# Altium footprint library MAX9722AEUE&plus_.PcbLib: 3 footprints
Each footprint in its own frame and in the unit in brackets; x right, y up, seen from the top. Pads: shape width x height; smd on the part's side, far side on the other; paste and mask are expansions set on the pad; w line width, h text height; cw(c..) or ccw(c..) is an arc to the next point about the centre after c.
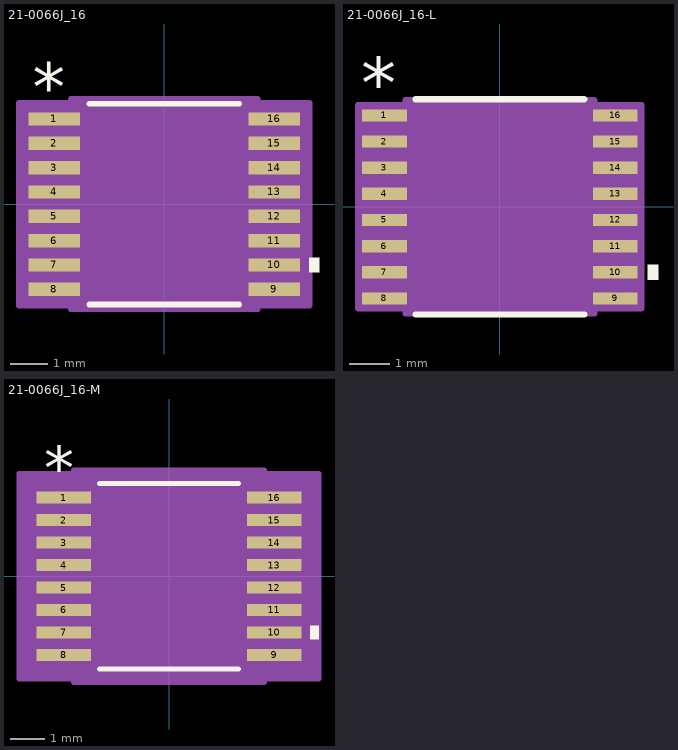
[diagram p0: the footprints below, top view; thin cyan lines are the x and y axes]

## 21-0066J_16 [mm]
pads (16):
  rect 1.379x0.355 smd paste+0 mask+0: 1(-2.937,2.275) 2(-2.937,1.625) 3(-2.937,0.975) 4(-2.937,0.325) 5(-2.937,-0.325) 6(-2.937,-0.975) 7(-2.937,-1.625) 8(-2.937,-2.275) 9(2.937,-2.275) 10(2.937,-1.625) 11(2.937,-0.975) 12(2.937,-0.325) 13(2.937,0.325) 14(2.937,0.975) 15(2.937,1.625) 16(2.937,2.275)
Top Overlay:
  region: 3.881,-1.435 4.135,-1.435 4.135,-1.816 3.881,-1.816
  lines w0.152: -2.005,-2.68 2.005,-2.68 ; -2.005,2.68 2.005,2.68
  text "*" at -3.509,2.503 h1.27
Mechanical 13:
  lines w0: -0.305,2.553 ccw(c0,2.553) 0.305,2.553
  lines w0.025: -3.277,-2.427 -3.277,-2.123 -2.248,-2.123 -2.248,-2.427 -3.277,-2.427 ; -3.277,-1.777 -3.277,-1.473 -2.248,-1.473 -2.248,-1.777 -3.277,-1.777 ; -3.277,-1.127 -3.277,-0.823 -2.248,-0.823 -2.248,-1.127 -3.277,-1.127 ; -3.277,-0.477 -3.277,-0.173 -2.248,-0.173 -2.248,-0.477 -3.277,-0.477 ; -3.277,0.173 -3.277,0.477 -2.248,0.477 -2.248,0.173 -3.277,0.173 ; -3.277,0.823 -3.277,1.127 -2.248,1.127 -2.248,0.823 -3.277,0.823 ; -3.277,1.473 -3.277,1.777 -2.248,1.777 -2.248,1.473 -3.277,1.473 ; -3.277,2.123 -3.277,2.427 -2.248,2.427 -2.248,2.123 -3.277,2.123 ; -2.248,-2.553 2.248,-2.553 2.248,2.553 -2.248,2.553 -2.248,-2.553 ; 2.248,-2.427 2.248,-2.123 3.277,-2.123 3.277,-2.427 2.248,-2.427 ; 2.248,-1.777 2.248,-1.473 3.277,-1.473 3.277,-1.777 2.248,-1.777 ; 2.248,-1.127 2.248,-0.823 3.277,-0.823 3.277,-1.127 2.248,-1.127 ; 2.248,-0.477 2.248,-0.173 3.277,-0.173 3.277,-0.477 2.248,-0.477 ; 2.248,0.173 2.248,0.477 3.277,0.477 3.277,0.173 2.248,0.173 ; 2.248,0.823 2.248,1.127 3.277,1.127 3.277,0.823 2.248,0.823 ; 2.248,1.473 2.248,1.777 3.277,1.777 3.277,1.473 2.248,1.473 ; 2.248,2.123 2.248,2.427 3.277,2.427 3.277,2.123 2.248,2.123
  text "*" at -2.184,1.206 h1.27
Mechanical 15:
  region: -2.502,-2.706 -3.881,-2.706 -3.881,2.706 -2.502,2.706 -2.502,2.807 2.502,2.807 2.502,2.706 3.881,2.706 3.881,-2.706 2.502,-2.706 2.502,-2.807 -2.502,-2.807
  lines w0.152: -3.881,-2.706 -3.881,2.706 -2.502,2.706 -2.502,2.807 2.502,2.807 2.502,2.706 3.881,2.706 3.881,-2.706 2.502,-2.706 2.502,-2.807 -2.502,-2.807 -2.502,-2.706 -3.881,-2.706
3D body "21-0066J_16.step": height 1.09, standoff 0, extent -3.277,-2.553 3.277,2.553

## 21-0066J_16-L [mm]
pads (16):
  rect 1.111x0.305 smd paste+0 mask+0: 1(-2.871,2.275) 2(-2.871,1.625) 3(-2.871,0.975) 4(-2.871,0.325) 5(-2.871,-0.325) 6(-2.871,-0.975) 7(-2.871,-1.625) 8(-2.871,-2.275) 9(2.871,-2.275) 10(2.871,-1.625) 11(2.871,-0.975) 12(2.871,-0.325) 13(2.871,0.325) 14(2.871,0.975) 15(2.871,1.625) 16(2.871,2.275)
Top Overlay:
  region: 3.681,-1.435 3.935,-1.435 3.935,-1.816 3.681,-1.816
  lines w0.152: -2.098,-2.68 2.098,-2.68 ; -2.098,2.68 2.098,2.68
  text "*" at -3.443,2.453 h1.27
Mechanical 13:
  lines w0: -0.305,2.553 ccw(c0,2.553) 0.305,2.553
  lines w0.025: -3.277,-2.427 -3.277,-2.123 -2.248,-2.123 -2.248,-2.427 -3.277,-2.427 ; -3.277,-1.777 -3.277,-1.473 -2.248,-1.473 -2.248,-1.777 -3.277,-1.777 ; -3.277,-1.127 -3.277,-0.823 -2.248,-0.823 -2.248,-1.127 -3.277,-1.127 ; -3.277,-0.477 -3.277,-0.173 -2.248,-0.173 -2.248,-0.477 -3.277,-0.477 ; -3.277,0.173 -3.277,0.477 -2.248,0.477 -2.248,0.173 -3.277,0.173 ; -3.277,0.823 -3.277,1.127 -2.248,1.127 -2.248,0.823 -3.277,0.823 ; -3.277,1.473 -3.277,1.777 -2.248,1.777 -2.248,1.473 -3.277,1.473 ; -3.277,2.123 -3.277,2.427 -2.248,2.427 -2.248,2.123 -3.277,2.123 ; -2.248,-2.553 2.248,-2.553 2.248,2.553 -2.248,2.553 -2.248,-2.553 ; 2.248,-2.427 2.248,-2.123 3.277,-2.123 3.277,-2.427 2.248,-2.427 ; 2.248,-1.777 2.248,-1.473 3.277,-1.473 3.277,-1.777 2.248,-1.777 ; 2.248,-1.127 2.248,-0.823 3.277,-0.823 3.277,-1.127 2.248,-1.127 ; 2.248,-0.477 2.248,-0.173 3.277,-0.173 3.277,-0.477 2.248,-0.477 ; 2.248,0.173 2.248,0.477 3.277,0.477 3.277,0.173 2.248,0.173 ; 2.248,0.823 2.248,1.127 3.277,1.127 3.277,0.823 2.248,0.823 ; 2.248,1.473 2.248,1.777 3.277,1.777 3.277,1.473 2.248,1.473 ; 2.248,2.123 2.248,2.427 3.277,2.427 3.277,2.123 2.248,2.123
  text "*" at -2.184,1.206 h1.27
Mechanical 15:
  region: -2.349,-2.529 -3.528,-2.529 -3.528,2.529 -2.349,2.529 -2.349,2.654 2.349,2.654 2.349,2.529 3.528,2.529 3.528,-2.529 2.349,-2.529 2.349,-2.654 -2.349,-2.654
  lines w0.152: -3.528,-2.529 -3.528,2.529 -2.349,2.529 -2.349,2.654 2.349,2.654 2.349,2.529 3.528,2.529 3.528,-2.529 2.349,-2.529 2.349,-2.654 -2.349,-2.654 -2.349,-2.529 -3.528,-2.529
3D body "21-0066J_16.step": height 1.09, standoff 0, extent -3.277,-2.553 3.277,2.553

## 21-0066J_16-M [mm]
pads (16):
  rect 1.579x0.355 smd paste+0 mask+0: 1(-3.037,2.275) 2(-3.037,1.625) 3(-3.037,0.975) 4(-3.037,0.325) 5(-3.037,-0.325) 6(-3.037,-0.975) 7(-3.037,-1.625) 8(-3.037,-2.275) 9(3.037,-2.275) 10(3.037,-1.625) 11(3.037,-0.975) 12(3.037,-0.325) 13(3.037,0.325) 14(3.037,0.975) 15(3.037,1.625) 16(3.037,2.275)
Top Overlay:
  region: 4.081,-1.435 4.335,-1.435 4.335,-1.816 4.081,-1.816
  lines w0.152: -2.005,-2.68 2.005,-2.68 ; -2.005,2.68 2.005,2.68
  text "*" at -3.609,2.503 h1.27
Mechanical 13:
  lines w0: -0.305,2.553 ccw(c0,2.553) 0.305,2.553
  lines w0.025: -3.277,-2.427 -3.277,-2.123 -2.248,-2.123 -2.248,-2.427 -3.277,-2.427 ; -3.277,-1.777 -3.277,-1.473 -2.248,-1.473 -2.248,-1.777 -3.277,-1.777 ; -3.277,-1.127 -3.277,-0.823 -2.248,-0.823 -2.248,-1.127 -3.277,-1.127 ; -3.277,-0.477 -3.277,-0.173 -2.248,-0.173 -2.248,-0.477 -3.277,-0.477 ; -3.277,0.173 -3.277,0.477 -2.248,0.477 -2.248,0.173 -3.277,0.173 ; -3.277,0.823 -3.277,1.127 -2.248,1.127 -2.248,0.823 -3.277,0.823 ; -3.277,1.473 -3.277,1.777 -2.248,1.777 -2.248,1.473 -3.277,1.473 ; -3.277,2.123 -3.277,2.427 -2.248,2.427 -2.248,2.123 -3.277,2.123 ; -2.248,-2.553 2.248,-2.553 2.248,2.553 -2.248,2.553 -2.248,-2.553 ; 2.248,-2.427 2.248,-2.123 3.277,-2.123 3.277,-2.427 2.248,-2.427 ; 2.248,-1.777 2.248,-1.473 3.277,-1.473 3.277,-1.777 2.248,-1.777 ; 2.248,-1.127 2.248,-0.823 3.277,-0.823 3.277,-1.127 2.248,-1.127 ; 2.248,-0.477 2.248,-0.173 3.277,-0.173 3.277,-0.477 2.248,-0.477 ; 2.248,0.173 2.248,0.477 3.277,0.477 3.277,0.173 2.248,0.173 ; 2.248,0.823 2.248,1.127 3.277,1.127 3.277,0.823 2.248,0.823 ; 2.248,1.473 2.248,1.777 3.277,1.777 3.277,1.473 2.248,1.473 ; 2.248,2.123 2.248,2.427 3.277,2.427 3.277,2.123 2.248,2.123
  text "*" at -2.184,1.206 h1.27
Mechanical 15:
  region: -2.756,-2.96 -4.335,-2.96 -4.335,2.96 -2.756,2.96 -2.756,3.061 2.756,3.061 2.756,2.96 4.335,2.96 4.335,-2.96 2.756,-2.96 2.756,-3.061 -2.756,-3.061
  lines w0.152: -4.335,-2.96 -4.335,2.96 -2.756,2.96 -2.756,3.061 2.756,3.061 2.756,2.96 4.335,2.96 4.335,-2.96 2.756,-2.96 2.756,-3.061 -2.756,-3.061 -2.756,-2.96 -4.335,-2.96
3D body "21-0066J_16.step": height 1.09, standoff 0, extent -3.277,-2.553 3.277,2.553